# Altium schematic symbol library SCH - CONNECTORS - 6 PIN 2 PART.SchLib: 1 symbol
Pins are listed as number, name and electrical type; pins without a type are passive.

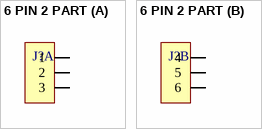
[diagram p0: symbol 6 PIN 2 PART]

## 6 PIN 2 PART
designator J?
part A pins: 1, 2, 3
part B pins: 4, 5, 6